# Altium schematic symbol library UCC21521DW.SchLib: 1 symbol
Pins are listed as number, name and electrical type; pins without a type are passive.

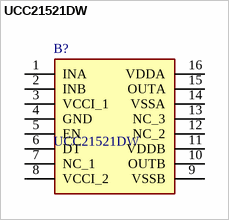
[diagram p0: symbol UCC21521DW]

## UCC21521DW
designator B?
4-A, 6-A, 5.7-kVRMS Isolated Dual-Channel Gate Driver with Enable; Manufacturer_Name: Texas Instruments; Geometry.Height: 2.65mm; Manufacturer_Part_Number: UCC21521DW; Mouser Part Number: 595-UCC21521DW; Mouser Price/Stock: https://www.mouser.co.uk/ProductDetail/Texas-Instruments/UCC21521DW?qs=8N88piwwHEh1S1VLrhQOJw%3D%3D; Arrow Part Number: UCC21521DW; Arrow Price/Stock: https://www.arrow.com/en/products/ucc21521dw/texas-instruments?region=nac; Datasheet Link: http://www.ti.com/lit/gpn/ucc21521
footprint SOIC127P1030X265-16N
pins: 1 INA, 2 INB, 3 VCCI_1, 4 GND, 5 EN, 6 DT, 7 NC_1, 8 VCCI_2, 9 VSSB, 10 OUTB, 11 VDDB, 12 NC_2, 13 NC_3, 14 VSSA, 15 OUTA, 16 VDDA